# EAGLE library part MAX98357AETE+T (library Lightsaber)
None Check availability <https://pricing.snapeda.com/parts/MAX98357AETE%2BT/Analog%20Devices/view-part?ref=eda>
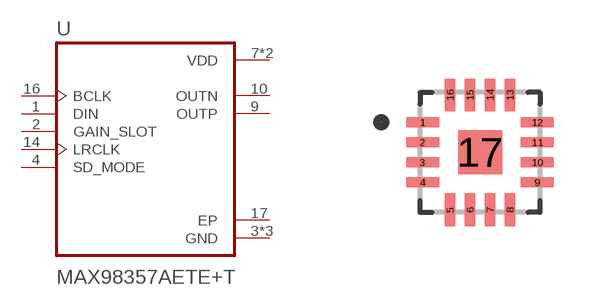
[diagram p3: symbol with the pads of QFN50P300X300X80-17N; footprint QFN50P300X300X80-17N]

Designator prefix U

## MAX98357AETE+T (AVAILABILITY: In Stock; CHECK_PRICES: https://www.snapeda.com/parts/MAX98357AETE+T/Analog+Devices/view-part/?ref=eda; DESCRIPTION: Tiny, Low-Cost, PCM Class D Amplifier with Class AB Performance; MF: Analog Devices; MP: MAX98357AETE+T; PACKAGE: TQFN-16 Maxim; PRICE: None; SNAPEDA_LINK: https://www.snapeda.com/parts/MAX98357AETE+T/Analog+Devices/view-part/?ref=snap)  [QFN50P300X300X80-17N]
1  DIN  in
2  GAIN_SLOT  in
3  GND  pwr
4  SD_MODE  in
7  VDD  pwr
8  VDD  pwr
9  OUTP  out
10  OUTN  out
11  GND  pwr
14  LRCLK  in
15  GND  pwr
16  BCLK  in
17  EP  pwr

## Footprint QFN50P300X300X80-17N (pad centres in mm)
smd 0.84 x 0.27: 1 -1.435,0.75; 2 -1.435,0.25; 3 -1.435,-0.25; 4 -1.435,-0.75; 9 1.435,-0.75; 10 1.435,-0.25; 11 1.435,0.25; 12 1.435,0.75
smd 0.27 x 0.84: 5 -0.75,-1.435; 6 -0.25,-1.435; 7 0.25,-1.435; 8 0.75,-1.435; 13 0.75,1.435; 14 0.25,1.435; 15 -0.25,1.435; 16 -0.75,1.435
smd 1.1 x 1.1: 17 0,0